# EAGLE library part RJ45_DOUBLE (library NMX_ControllerSide_v1-3)
RJ45 Connectors - Double
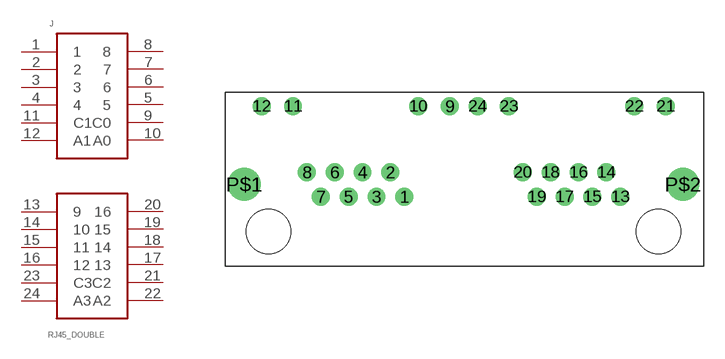
[diagram p1: symbol with the pads of RJHSE-5385-02; footprint RJHSE-5385-02]

Designator prefix J

## RJ45_DOUBLEPTH  [RJHSE-5385-02]
1  1
2  2
3  3
4  4
5  5
6  6
7  7
8  8
9  C0
10  A0
11  C1
12  A1
13  9
14  10
15  11
16  12
17  13
18  14
19  15
20  16
21  C2
22  A2
23  C3
24  A3

## Footprint RJHSE-5385-02 (pad centres in mm)
drill 0.8: 1 -4.07,1.27; 2 -5.09,3.05; 3 -6.1,1.27; 4 -7.12,3.05; 5 -8.13,1.27; 6 -9.15,3.05; 7 -10.16,1.27; 8 -11.18,3.05; 9 -0.76,7.87; 10 -3.05,7.87; 11 -12.19,7.87; 12 -14.48,7.87; 13 11.68,1.27; 14 10.66,3.05; 15 9.65,1.27; 16 8.63,3.05; 17 7.62,1.27; 18 6.6,3.05; 19 5.59,1.27; 20 4.57,3.05; 21 14.99,7.87; 22 12.7,7.87; 23 3.56,7.87; 24 1.27,7.87
drill 1.6: P$1 -15.745,2.16; P$2 16.255,2.16
hole 3.251 at -13.97,-1.27
hole 3.251 at 14.48,-1.27